# Altium schematic symbol library M7.SchLib: 2 symbols
Pins are listed as number, name and electrical type; pins without a type are passive.

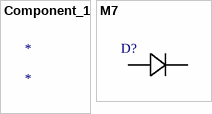
[diagram p0: symbols Component_1 to M7]

## Component_1
designator *

## M7
designator D?, comment Diode  (value not drawn)
1A Independent Type 1kV 1.1V@1A SMA(DO-214AC) Diodes - General Purpose ROHS; Mfr_Name: Microdiode Electronics
footprint M7_MDD
pins: 1 CATHODE, 2 ANODE